# Altium schematic symbol library R-Discharge.SchLib: 1 symbol
Pins are listed as number, name and electrical type; pins without a type are passive.

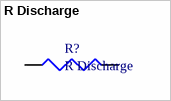
[diagram p0: symbol R Discharge]

## R Discharge
designator R?
Discharge Resistance
pins: 1, 2